# Altium schematic symbol library RL181S-183J-RC.SchLib: 1 symbol
Pins are listed as number, name and electrical type; pins without a type are passive.

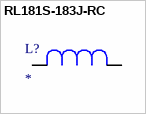
[diagram p0: symbol RL181S-183J-RC]

## RL181S-183J-RC
designator L?
Ind10.5x14mm,18000uH5%0.021A,shdTH | Bourns RL181S-183J-RC; SnapEDA_Link: https://www.snapeda.com/parts/RL181S-183J-RC/Bourns/view-part/?ref=snap; Package: Radial Bourns - J.W. Miller; Value: *; MF: Bourns; MP: RL181S-183J-RC; Check_prices: https://www.snapeda.com/parts/RL181S-183J-RC/Bourns/view-part/?ref=eda
footprint INDRL181S
pins: 1, 2